# EAGLE library part ICA3H (library Smartcrutches)
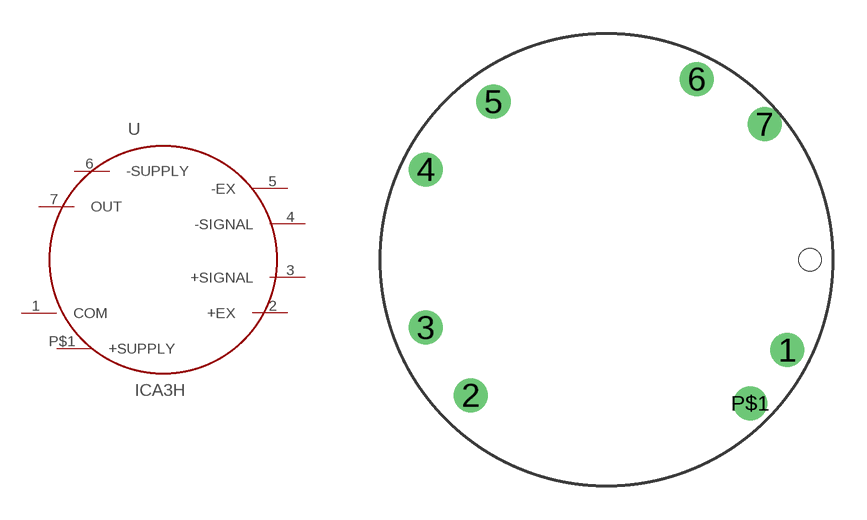
[diagram p6: symbol with the pads of ICA3H; footprint ICA3H]

Designator prefix -

## ICA3H  [ICA3H]
1  COM
2  +EX
3  +SIGNAL
4  -SIGNAL
5  -EX
6  -SUPPLY
7  OUT
P$1  +SUPPLY

## Footprint ICA3H (pad centres in mm)
drill 1: 1 8,-4; 2 -6,-6; 3 -8,-3; 4 -8,4; 5 -5,7; 6 4,8; 7 7,6; P$1 6.35,-6.35
hole 1 at 9,0